# Altium schematic symbol library 0430452427.SchLib: 1 symbol
Pins are listed as number, name and electrical type; pins without a type are passive.

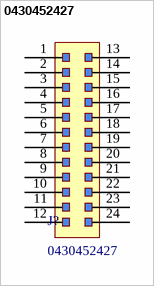
[diagram p0: symbol 0430452427]

## 0430452427
designator J?
Connector Header Through Hole 24 position 0.118" (3.00mm); MFR: Molex; No. of Positions: 24; No. of Rows: 2; Current Rating: 8A; Voltage Rating: 600V; PN: 0430452427; Supplier 1: Digi-Key; Supplier Part Number 1: WM10732-ND; ComponentLink1Description: Datasheet; ComponentLink1URL: https://www.molex.com/pdm_docs/ps/PS-43045.pdf
footprint 0430452427
pins: 1, 2, 3, 4, 5, 6, 7, 8, 9, 10, 11, 12, 13, 14, 15, 16, 17, 18, 19, 20, 21, 22, 23, 24